# Altium schematic symbol library 计算机原理实验5.SchLib: 3 symbols
Pins are listed as number, name and electrical type; pins without a type are passive.

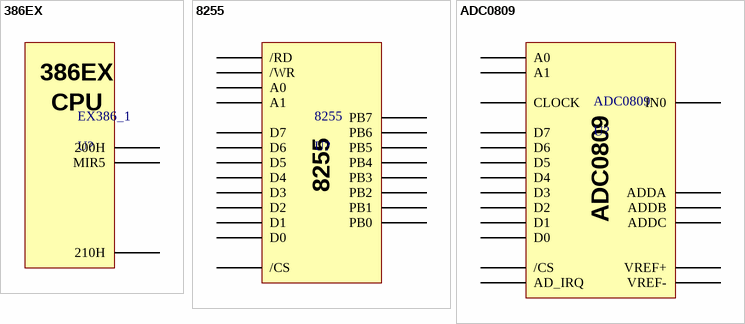
[diagram p0: symbols 386EX to ADC0809]

## 386EX
designator EX386_1, comment U?
pins: GND 200H, GND MIR5, GND 210H
text: CPU

## 8255
designator 8255, comment U?
pins: GND /RD, GND /WR, GND A0, GND A1, GND D7, GND D6, GND D5, GND D4, GND D3, GND D2, GND D1, GND D0, GND PB2, GND PB1, GND PB0, GND PB7, GND PB6, GND PB5, GND PB4, GND PB3, GND /CS

## ADC0809
designator ADC0809, comment U?
pins: GND A0, GND A1, GND CLOCK, GND D7, GND D6, GND D5, GND D4, GND D3, GND D2, GND D1, GND D0, GND AD_IRQ, GND /CS, GND IN0, GND ADDA, GND ADDB, GND ADDC, GND VREF+, GND VREF-